# Altium schematic symbol library PBL - Switches.SCHLIB: 22 symbols
Pins are listed as number, name and electrical type; pins without a type are passive.

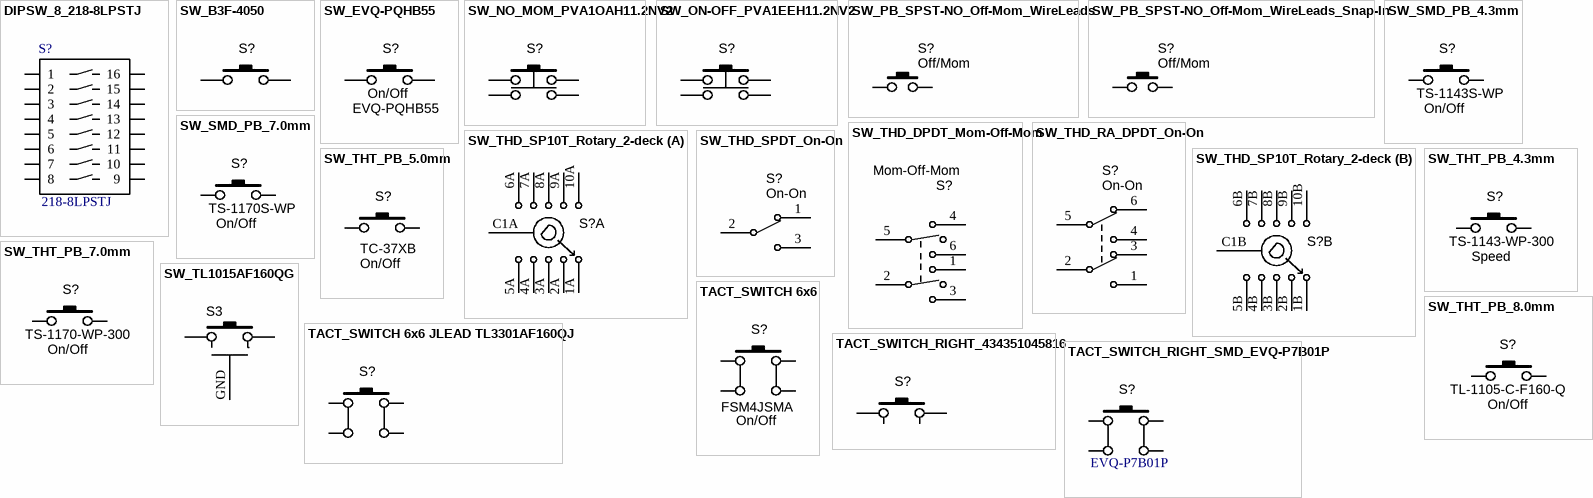
[diagram p0: symbols DIPSW_8_218-8LPSTJ to TACT_SWITCH_RIGHT_SMD_EVQ-P7B01P]

## DIPSW_8_218-8LPSTJ
designator S?, comment 218-8LPSTJ
Dip Switch SPST 8 Position Surface Mount Slide (Standard) Actuator 25mA 24VDC; Manufacturer: CTS Electrocomponents; Actuator Level: Flush, Recessed; Pitch: 0.050" (1.27mm), Half; Washable: Yes; Electrical Life: 1,000 Cycles; Supplier 1: Digi-Key; Supplier Part Number 1: CT3111-ND; RoHS: RoHS Compliant; Category: Switches; Stock 1: 2517; Pricing 1: 1=1.62, 10=1.525, 25=1.4632, 50=1.3698, 100=1.3387, 250=1.18304, 500=1.12078, 1000=0.99624, 5000=0.87171 (USD); Packaging: Tube; Part Status: Active; Circuit: SPST; Current Rating: 25mA; Voltage Rating: 24VDC; Actuator Type: Slide (Standard); Contact Material: Beryllium Copper; Contact Finish: Gold; Height Above Board: 0.106" (2.70mm); Mounting Type: Surface Mount; Termination Style: J Lead; Features: Epoxy Sealed Terminals, Tape Seal; Operating Temperature: -55°C ~ 85°C; Body Material: -; Length: 0.446" (11.33mm); Mechanical Life: -; ComponentLink1URL: https://www.ctscorp.com/wp-content/uploads/218.pdf; ComponentLink1Description: https://www.ctscorp.com/wp-content/uploads/218.pdf; Manufacturer Part Number: 218-8LPSTJ
footprint 218LPJ (218-8LPSTJ)
pins: 1, 2, 3, 4, 5, 6, 7, 8, 9, 10, 11, 12, 13, 14, 15, 16

## SW_B3F-4050
designator S?, comment B3F-4050  (value not drawn)
Low-profile captive tact switch; Manufacturer 1: Omron Electronics Inc-EMC Div; Description 1: SWITCH TACTILE SPST-NO 0.05A 24V; Circuit: SPST-NO; Switch Function: Off-Mom; Contact Rating @ Voltage: 0.05A @ 24VDC; Actuator Type: Plunger for Cap; Actuator Height off PCB, Vertical: 7.30mm; Actuator Orientation: Top Actuated; Outline: 12.00mm x 12.00mm; Illumination: Non-Illuminated; Operating Force: 130gf; Switch Travel: 0.30mm; Mechanical Life: 3,000,000 Cycles; Supplier 1: Digi-Key; Supplier Part Number 1: SW413-ND; RoHS: RoHS Compliant; Category: Switches; Stock 1: 24182; Pricing 1: 1=0.5, 10=0.484, 25=0.4748, 50=0.4568, 100=0.394, 250=0.3582, 500=0.3403, 1000=0.26865, 5000=0.25074 (USD); Packaging: Bulk; Part Status: Active; Mounting Type: Through Hole; Actuator Length, Right Angle: -; Termination Style: PC Pin; Illumination Type, Color: -; Illumination Voltage (Nominal): -; Ingress Protection: -; Features: -; Actuator Material: -; Operating Temperature: -25°C ~ 70°C; ComponentLink1URL: http://www.omron.com/ecb/products/pdf/en-b3f.pdf; ComponentLink1Description: http://www.omron.com/ecb/products/pdf/en-b3f.pdf; Manufacturer Part Number 1: B3F-4050
footprint SW_B3F-4050
pins: 1, 2, 3, 4

## SW_EVQ-PQHB55
designator S?, comment Function: On/Off  (hidden comment: EVQ-PQHB55)
Low-profile captive tact switch; Manufacturer 1: Panasonic - ECG; Ratings: 1.6 Newton; Switch Function: Off-Mom; Contact Rating @ Voltage: 0.02A @ 15VDC; Outline: 4.50mm x 4.50mm; Operating Force: 160gf; SCDType: spec; Package / Case: per dwg; Supplier 1: Digi-Key; Supplier Part Number 1: P8090SCT-ND; Mounting Type: Surface Mount; Orientation: Vertical; ComponentLink1URL: http://industrial.panasonic.com/www-data/pdf/ATK0000/ATK0000CE1.pdf; ComponentLink1Description: http://industrial.panasonic.com/www-data/pdf/ATK0000/ATK0000CE1.pdf; Manufacturer Part Number 1: EVQ-PQHB55
footprint SWITCH_TACT-EVQPQXB55 (Panasonic SMD tact switch 4.5x4.5x0.55mm, EVQPQxB55)
pins: 1, 2

## SW_NO_MOM_PVA1OAH11.2NV2
designator S?, comment SW_NO_MOM_PVA1 OA H1 1.2N V2  (value not drawn)
Low-profile captive tact switch; Manufacturer: C&K; Circuit: DPST-NO; Switch Function: Off-Mom; Current Rating: 100mA (DC); Actuator Type: Plunger for Cap; Color - Actuator/Cap: White; Electrical Life: 100,000 Cycles; Supplier 1: Digi-Key; Supplier Part Number 1: 401-1133-ND; RoHS: RoHS Compliant; Category: Switches; Stock 1: 28581; Pricing 1: 1=1.23, 10=1.145, 25=1.09, 50=1.0356, 100=1.0083, 250=0.981, 500=0.9265, 1000=0.872, 5000=0.73575 (USD); Packaging: Bulk; Part Status: Active; Type: Keyswitch; Illumination Type, Color: -; Illumination Voltage (Nominal): -; Mounting Type: Through Hole; Termination Style: PC Pin; Ingress Protection: -; Features: -; Panel Cutout Dimensions: -; Operating Temperature: -40°C ~ 85°C; Mechanical Life: -; ComponentLink1URL: http://www.ckswitches.com/media/1343/pva.pdf; ComponentLink1Description: http://www.ckswitches.com/media/1343/pva.pdf; Manufacturer Part Number: PVA1 OA H1 1.2N V2
footprint SW_PVA1
pins: 1, 1', 2, 2'

## SW_ON-OFF_PVA1EEH11.2NV2
designator S?  (value not drawn)
Low-profile captive tact switch; Manufacturer: C&K; Circuit: DPST; Switch Function: Off-On; Current Rating: 100mA (DC); Actuator Type: Plunger for Cap; Color - Actuator/Cap: Red; Electrical Life: 100,000 Cycles; Supplier 1: Digi-Key; Supplier Part Number 1: 401-1132-ND; RoHS: RoHS Compliant; Category: Switches; Stock 1: 7002; Pricing 1: 1=1.26, 10=1.176, 25=1.12, 50=1.064, 100=1.036, 250=1.008, 500=0.952, 1000=0.896, 5000=0.756 (USD); Packaging: Bulk; Part Status: Active; Type: Keyswitch; Illumination Type, Color: -; Illumination Voltage (Nominal): -; Mounting Type: Through Hole; Termination Style: PC Pin; Ingress Protection: -; Features: -; Panel Cutout Dimensions: -; Operating Temperature: -40°C ~ 85°C; Mechanical Life: -; ComponentLink1URL: http://www.ckswitches.com/media/1343/pva.pdf; ComponentLink1Description: http://www.ckswitches.com/media/1343/pva.pdf; Manufacturer Part Number: PVA1EEH11.2NV2
footprint SW_PVA1
pins: 1, 1', 2, 2'

## SW_PB_SPST-NO_Off-Mom_WireLeads
designator S?, comment Function: Off/Mom  (hidden comment: OFF-MOM)
Switch wire leads momentary SPST; Manufacturer 1: Judco Manufacturing Inc; Manufacturer Part Number 1: 40-2390-00; SCDType: spec; Package / Case: Panel-mount with wire leads; Supplier 1: Digi-Key; Supplier Part Number 1: 506PB-ND
footprint SWITCH_DPDT_RA_7201K2A (DPDT Switch Right-angle PCB mount - C&K 7201K2A)
pins: 1, 2

## SW_PB_SPST-NO_Off-Mom_WireLeads_Snap-In
designator S?, comment Function: Off/Mom  (hidden comment: OFF-MOM)  (mechanical)
Switch momentary SPST panel mount with wire leads; Manufacturer 1: C&K Components; Manufacturer Part Number 1: AP4E200SWBE; SCDType: spec; Package / Case: Panel-mount with wire leads; Supplier 1: Digi-Key; Supplier Part Number 1: CKN9979-ND
footprint HDR_1x2_Generic (Connector Header, Single-row 2-position, 0.200" pitch)
pins: 1, 2

## SW_SMD_PB_4.3mm
designator S?, comment TS-1143S-WP  Function: On/Off
Switch SMD Tact 4.3mm Stem; Manufacturer 1: Bond-Tact; Manufacturer Part Number 1: TS-1143S-WP-200; SCDType: spec; Package / Case: 6.5x6.5mm; 4.3mm stem
footprint TS-1143S (6.5x6.5mm SMD tact switch 4.3mm stem)
pins: 1, 2

## SW_SMD_PB_7.0mm
designator S?, comment TS-1170S-WP  Function: On/Off
Switch SMD Tact 7.0mm Stem; Manufacturer 1: Bond-Tact; Manufacturer Part Number 1: TS-1170S-WP-200; SCDType: source; Package / Case: 6.5x6.5mm; 7.0mm stem; ComponentLink1URL: http://www.bondtact.com.hk/zaspx/productd.aspx?catno=3&subcatid=3&PageNo=2&productno=40; ComponentLink1Description: http://www.bondtact.com.hk/zaspx/productd.aspx?catno=3&subcatid=3&PageNo=2&productno=40
footprint TS-1170S (6.5x6.5mm SMD tact switch 7.0mm stem)
pins: 1, 2

## SW_THD_DPDT_Mom-Off-Mom
designator S?, comment MOM-OFF-MOM
Switch THD toggle momentary DPDT; Manufacturer 1: NKK Switches; Manufacturer Part Number 1: M2T28SA5G03; Contact Rating @ Voltage: 0.4VA @ 28VAC/DC; Actuator Type: Standard Round; Actuator Length: 12.70mm; Illumination: Non-Illuminated; SCDType: spec; Package / Case: 6.5x6.5mm; 4.3mm stem; Supplier 1: Digi-Key; Supplier Part Number 1: M2T28SA5G03-ND; Circuit: DPDT; Mounting Type: Through Hole; ComponentLink1URL: http://www.nkkswitches.com/pdf/M2toggles.pdf; ComponentLink1Description: http://www.nkkswitches.com/pdf/M2toggles.pdf; Switch Function: Mom-Off-Mom
footprint SWITCH_DPDT_M2 (NKK M2 Series DPDT Switch with 03 pin option)
pins: 1, 2, 3, 4, 5, 6

## SW_THD_RA_DPDT_On-On
designator S?, comment ON-ON
Switch THD right-angle toggle DPDT; Manufacturer 1: C&K Components; Manufacturer Part Number 1: 7201K2AQE; Contact Rating @ Voltage: 5A @ 120VAC; Actuator Type: Locking Lever; Actuator Length: 17.88mm; Illumination: Non-Illuminated; SCDType: spec; Circuit: DPDT; Mounting Type: Panel Mount, Right Angle; Supplier 1: Digi-Key; Supplier Part Number 1: CKN9722-ND; Bushing Thread: 1/4-40; Switch Function: On-On
footprint SWITCH_DPDT_RA_7201K2A (DPDT Switch Right-angle PCB mount - C&K 7201K2A)
pins: 1, 2, 3, 4, 5, 6

## SW_THD_SP10T_Rotary_2-deck
designator S?, comment 10 pos. rotary 2-deck  (value not drawn)
Switch THD rotary SP10T 2-deck; Manufacturer: Grayhill Inc; Manufacturer Part Number: 71ADF36-02PAJN; Number of Decks: 2; Number of Poles per Deck: 1; Number of Positions: 2 ~ 10; Angle of Throw: 36°; Contact Rating @ Voltage: 0.25A @ 28VDC; SCDType: spec; Package / Case: 6.5x6.5mm; 4.3mm stem; Supplier 1: Digi-Key; Supplier Part Number 1: GH7332-ND; Orientation: Right Angle; Circuit per Deck: SP10T; Function: Rotary
footprint SWITCH_ROTARY_SP10T (Grayhill 71AF style 2-deck single pole 10-position rotary switch)
part A pins: 1A, 2A, 3A, 4A, 5A, 6A, 7A, 8A, 9A, 10A, C1A
part B pins: 1B, 2B, 3B, 4B, 5B, 6B, 7B, 8B, 9B, 10B, C1B

## SW_THD_SPDT_On-On
designator S?, comment ON-ON
Switch THD vertical toggle SPDT; Manufacturer 1: TE Connectivity; Manufacturer Part Number 1: SLS121PC04; Contact Rating @ Voltage: 0.25A @ 125VAC; SCDType: spec; Circuit: SPDT; Mounting Type: PCB mount; Supplier 1: Digi-Key; Supplier Part Number 1: 450-1598-ND; Switch Function: On-On
footprint SWITCH_SPDT_SLIDER (TE Connectivity SLS121PC04 SPDT slider)
pins: 1, 2, 3

## SW_THT_PB_4.3mm
designator S?  Manufacturer Part Number 1: TS-1143-WP-300  Function: Speed
Switch, tact, 4.3mm stem; Manufacturer 1: Bond-Tact; SCDType: spec; Package / Case: 6.5x6.5mm; 4.3mm stem; Material: Brass/Nylon/Ag plating
footprint TACT-SWITCH-TS1143 (Bondtact sealed TH tact switch)
pins: 1, 2

## SW_THT_PB_5.0mm
designator S?  Manufacturer Part Number 1: TC-37XB  Function: On/Off
Switch, tact, 5.0mm stem; Manufacturer 1: Wealth Metal; SCDType: spec; Package / Case: 6.5x6.5mm; 5.0mm stem; Material: Brass/Nylon/Ag plating
footprint TACT-SWITCH-TC-37XB (Wealth Metal sealed TH tact switch)
pins: 1, 2

## SW_THT_PB_7.0mm
designator S?  Manufacturer Part Number 1: TS-1170-WP-300  Function: On/Off
Switch, tact, 7.0mm stem; Manufacturer 1: Bond-Tact; SCDType: source*; Package / Case: 6.5x6.5mm; 7.0mm stem; Material: Brass/Nylon/Ag plating
footprint TACT-SWITCH-TS1170 (Bondtact sealed TH tact switch)
pins: 1, 2

## SW_THT_PB_8.0mm
designator S?  Manufacturer Part Number 1: TL-1105-C-F160-Q  Function: On/Off
Switch Tact THD 8.0mm Stem; Manufacturer 1: E-Switch; SCDType: source*; Package / Case: 6.0x6.0mm; 8.0mm stem; Material: Brass/Nylon/Ag plating
footprint TACT-SWITCH-TS1180 (E-Switch TL1105 series tact switch)
pins: 1, 2

## SW_TL1015AF160QG
designator S3, comment TL1015AF160QG  (value not drawn)
SWITCH TACTILE SPST-NO 0.05A 12V; Supplier 1: Digi-Key; Supplier Part Number 1: EG4344CT-ND
footprint TACT_SW_3.9mm_2.9mm
pins: 1, 2, GND

## TACT_SWITCH 6x6
designator S?, comment FSM4JSMA  Function: On/Off
TACT_SWITCH 6x6; Manufacturer 1: Bond-Tact; Manufacturer Part Number 1: TS-1143S-WP-200; SCDType: spec; Package / Case: 6.5x6.5mm; 4.3mm stem; Supplier 1: Digi-Key; Supplier Part Number 1: 450-1129-ND
footprint TACT_6mmx6mm
pins: 1, 2, 3, 4

## TACT_SWITCH 6x6 JLEAD TL3301AF160QJ
designator S?, comment TL3301AF160QJ  (value not drawn)
TACT_SWITCH 6x6 Jlead TL3301AF160QJ; Manufacturer: E-Switch; Circuit: SPST-NO; Switch Function: Off-Mom; Contact Rating @ Voltage: 0.05A @ 12VDC; Actuator Type: Standard; Actuator Height off PCB, Vertical: 5.00mm; Actuator Orientation: Top Actuated; Outline: 6.00mm x 6.00mm; Illumination: Non-Illuminated; Operating Force: 160gf; Actuator Material: Polyamide (PA), Nylon; Switch Travel: 0.25mm; Mechanical Life: 100,000 Cycles; Supplier 1: Digi-Key; Supplier Part Number 1: EG4374CT-ND; RoHS: RoHS Compliant; Category: Switches; Stock 1: 12724; Pricing 1: 1=0.43, 10=0.41, 25=0.4024, 50=0.387, 100=0.334, 250=0.3036, 500=0.28842 (USD); Packaging: Cut Tape (CT); Part Status: Active; Mounting Type: Surface Mount; Actuator Length, Right Angle: -; Termination Style: J Lead; Illumination Type, Color: -; Illumination Voltage (Nominal): -; Ingress Protection: -; Features: -; Operating Temperature: -20°C ~ 70°C; ComponentLink1URL: https://www.e-switch.com/system/asset/product_line/data_sheet/158/TL3301.pdf; ComponentLink1Description: https://www.e-switch.com/system/asset/product_line/data_sheet/158/TL3301.pdf; Manufacturer Part Number: TL3301AF160QJ
footprint SWITCH_TACT_JLEAD_6mm (TL3301AF160QJ  Tactile Switch SPST-NO Top Actuated Surface Mount)
pins: 1, 2, 3, 4

## TACT_SWITCH_RIGHT_434351045816
designator S?, comment 434351045816  (value not drawn)
Tactile Switch SPST-NO Side Actuated Surface Mount, Right Angle; Supplier 1: Digi-Key; Supplier Part Number 1: 732-7057-1-ND
footprint TACT_SWITCH_434351045816 (Tactile Switch SPST-NO Side Actuated Surface Mount, Right Angle)
pins: 1, 2

## TACT_SWITCH_RIGHT_SMD_EVQ-P7B01P
designator S?, comment EVQ-P7B01P
Tactile Switch SPST-NO Side Actuated Surface Mount, Right Angle; Manufacturer: Panasonic Electronic Components; Description: SWITCH TACTILE SPST-NO 0.05A 12V; Switch Function: Off-Mom; Contact Rating @ Voltage: 0.05A @ 12VDC; Actuator Type: Rectangular Button; Outline: 3.50mm x 2.90mm; Illumination: Non-Illuminated; Operating Force: 220gf; Switch Travel: 0.20mm; Mechanical Life: 100,000 Cycles; Supplier 1: Digi-Key; Supplier Part Number 1: P16764CT-ND; RoHS: RoHS Compliant; Category: Switches; Stock 1: 5857; Pricing 1: 1=0.3, 10=0.285, 25=0.2748, 50=0.2646, 100=0.2544, 250=0.23404, 500=0.2035, 1000=0.17298 (USD); Packaging: Cut Tape (CT); Part Status: Active; Circuit: SPST-NO; Mounting Type: Surface Mount, Right Angle; Actuator Height off PCB, Vertical: -; Actuator Length, Right Angle: -; Actuator Orientation: Side Actuated; Termination Style: J Lead; Illumination Type, Color: -; Illumination Voltage (Nominal): -; Ingress Protection: -; Features: -; Operating Temperature: -20°C ~ 70°C; Actuator Material: -; ComponentLink1URL: https://www3.panasonic.biz/ac/e_download/control/switch/light-touch/catalog/sw_lt_eng_3529s_side.pdf; ComponentLink1Description: https://www3.panasonic.biz/ac/e_download/control/switch/light-touch/catalog/sw_lt_eng_3529s_side.pdf; Manufacturer Part Number: EVQ-P7B01P
footprint EVQ-P7B01P
pins: 1, 2, 3, 4